# EAGLE library part LCD-16X2 (library #Ostatni)
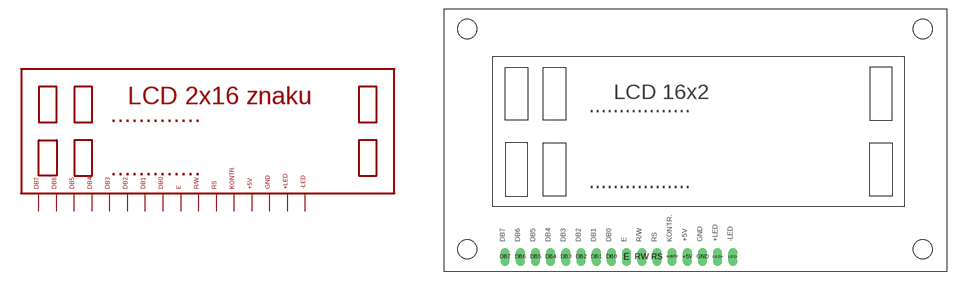
[diagram p1: symbol with the pads of LCD-16X2; footprint LCD-16X2]

Designator prefix LCD

## LCD-16X2DISPLAY  [LCD-16X2]
+5V  +5V  pas
DB0  DB0  pas
DB1  DB1  pas
DB2  DB2  pas
DB3  DB3  pas
DB4  DB4  pas
DB5  DB5  pas
DB6  DB6  pas
DB7  DB7  pas
E  E  pas
GND  GND  pas
KONTR  KONTR  pas
LED+  +LED  pas
LED-  -LED  pas
RS  RS  pas
RW  RW  pas

## Footprint LCD-16X2 (pad centres in mm)
drill 0.8 pad 1.5 long: +5V 40.64,2.54; DB0 27.94,2.54; DB1 25.4,2.54; DB2 22.86,2.54; DB3 20.32,2.54; DB4 17.78,2.54; DB5 15.24,2.54; DB6 12.7,2.54; DB7 10.16,2.54; E 30.48,2.54; GND 43.18,2.54; KONTR 38.1,2.54; LED+ 45.72,2.54; LED- 48.26,2.54; RS 35.56,2.54; RW 33.02,2.54
hole 3.2 at 3.81,40.64
hole 3.2 at 80.01,40.64
hole 3.2 at 80.01,3.81
hole 3.2 at 3.81,3.81